# EAGLE library part FH12-12S-0.5SH (library Chromation)
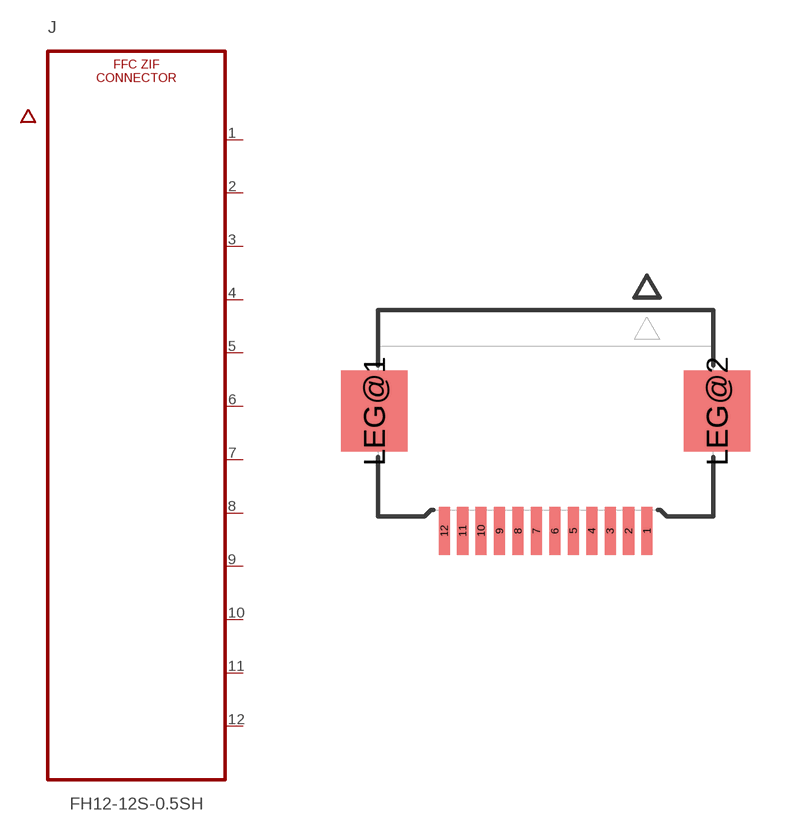
[diagram p19: symbol with the pads of FH12-12S-0.5SH; footprint FH12-12S-0.5SH]

Designator prefix J

## FH12-12S-0.5SH  [FH12-12S-0.5SH]
1  1
2  2
3  3
4  4
5  5
6  6
7  7
8  8
9  9
10  10
11  11
12  12
LEG@1  LEG  nc
LEG@2  LEG  nc

## Footprint FH12-12S-0.5SH (pad centres in mm)
smd 0.3 x 1.3: 1 2.75,-3.2; 2 2.25,-3.2; 3 1.75,-3.2; 4 1.25,-3.2; 5 0.75,-3.2; 6 0.25,-3.2; 7 -0.25,-3.2; 8 -0.75,-3.2; 9 -1.25,-3.2; 10 -1.75,-3.2; 11 -2.25,-3.2; 12 -2.75,-3.2
smd 1.8 x 2.2: LEG@1 -4.65,0.05; LEG@2 4.65,0.05